# Altium schematic symbol library 3313J-1-103E.SchLib: 1 symbol
Pins are listed as number, name and electrical type; pins without a type are passive.

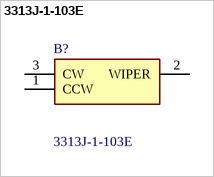
[diagram p0: symbol 3313J-1-103E]

## 3313J-1-103E
designator B?
Bourns 3313J Series SMD Cermet Trimmer Resistor with J-Hook Terminations, 10k +/-20% 1/8W +/-100ppm/C Top Adjust; Geometry.Height: 2.4mm; Mouser Part Number: 652-3313J-1-103E; Mouser Price/Stock: https://www.mouser.co.uk/ProductDetail/Bourns/3313J-1-103E?qs=oM%2FE6%2FUWOpSJWTaqAX%252Bm%2Fw%3D%3D; Manufacturer_Name: Bourns; Manufacturer_Part_Number: 3313J-1-103E; Datasheet Link: https://www.bourns.com/docs/Product-Datasheets/3313.pdf
footprint 3313J1103E
pins: 1 CCW, 2 WIPER, 3 CW